# Altium schematic symbol library ZED-F9P-04B.SchLib: 1 symbol
Pins are listed as number, name and electrical type; pins without a type are passive.

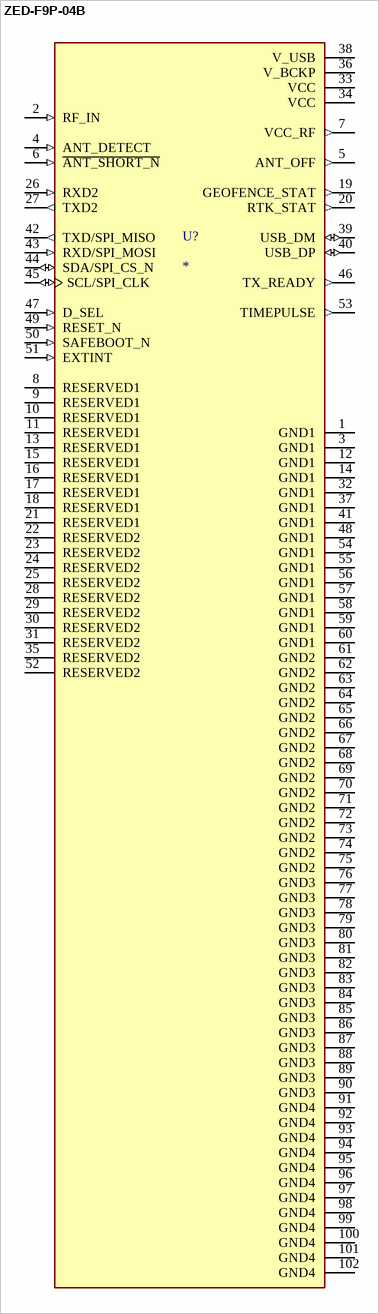
[diagram p0: symbol ZED-F9P-04B]

## ZED-F9P-04B
designator U?
series RF Receiver BeiDou, Galileo, GLONASS, GNSS, GPS 1.207GHz, 1.2276GHz, 1.246GHz, 1.561GHz, 1.575GHz, 1.602GHz -167dBm 921.6kbps - 54-LGA (22x17); MPN: ZED-F9P-04B; MF: U-Blox; SnapEDA_Link: https://www.snapeda.com/parts/ZED-F9P-04B/u-blox/view-part/?ref=snap; Package: SMD-54 u-blox; Value: *; Check_prices: https://www.snapeda.com/parts/ZED-F9P-04B/u-blox/view-part/?ref=eda
footprint MODULE_ZED-F9P-04B
pins: 1 GND1 (power), 2 RF_IN (in), 3 GND1 (power), 4 ANT_DETECT (in), 5 ANT_OFF (out), 6 ~{ANT_SHORT_N} (in), 7 VCC_RF (out), 8 RESERVED1, 9 RESERVED1, 10 RESERVED1, 11 RESERVED1, 12 GND1 (power), 13 RESERVED1, 14 GND1 (power), 15 RESERVED1, 16 RESERVED1, 17 RESERVED1, 18 RESERVED1, 19 GEOFENCE_STAT (out), 20 RTK_STAT (out), 21 RESERVED1, 22 RESERVED2, 23 RESERVED2, 24 RESERVED2, 25 RESERVED2, 26 RXD2 (in), 27 TXD2 (out), 28 RESERVED2, 29 RESERVED2, 30 RESERVED2, 31 RESERVED2, 32 GND1 (power), 33 VCC (power), 34 VCC (power), 35 RESERVED2, 36 V_BCKP (power), 37 GND1 (power), 38 V_USB (power), 39 USB_DM (io), 40 USB_DP (io), 41 GND1 (power), 42 TXD/SPI_MISO (out), 43 RXD/SPI_MOSI (in), 44 SDA/SPI_CS_N (io), 45 SCL/SPI_CLK (io), 46 TX_READY (out), 47 D_SEL (in), 48 GND1 (power), 49 RESET_N (in), 50 SAFEBOOT_N (in), 51 EXTINT (in), 52 RESERVED2, 53 TIMEPULSE (out), 54 GND1 (power), 55 GND1 (power), 56 GND1 (power), 57 GND1 (power), 58 GND1 (power), 59 GND1 (power), 60 GND1 (power), 61 GND2 (power), 62 GND2 (power), 63 GND2 (power), 64 GND2 (power), 65 GND2 (power), 66 GND2 (power), 67 GND2 (power), 68 GND2 (power), 69 GND2 (power), 70 GND2 (power), 71 GND2 (power), 72 GND2 (power), 73 GND2 (power), 74 GND2 (power), 75 GND2 (power), 76 GND3 (power), 77 GND3 (power), 78 GND3 (power), 79 GND3 (power), 80 GND3 (power), 81 GND3 (power), 82 GND3 (power), 83 GND3 (power), 84 GND3 (power), 85 GND3 (power), 86 GND3 (power), 87 GND3 (power), 88 GND3 (power), 89 GND3 (power), 90 GND3 (power), 91 GND4 (power), 92 GND4 (power), 93 GND4 (power), 94 GND4 (power), 95 GND4 (power), 96 GND4 (power), 97 GND4 (power), 98 GND4 (power), 99 GND4 (power), 100 GND4 (power), 101 GND4 (power), 102 GND4 (power)